# EAGLE library part PIC18F14K50 (library pedrodiogo)
Microchip PIC18F14K50 DATASHEET: http://ww1.microchip.com/downloads/en/DeviceDoc/41350E.pdf
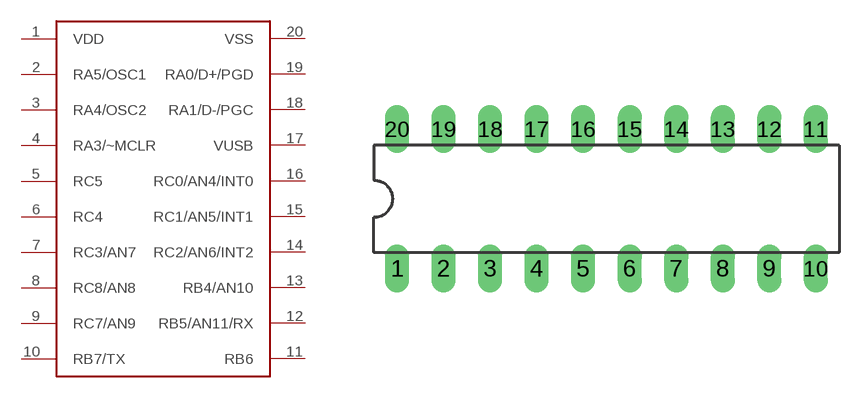
[diagram p0: symbol with the pads of DIL20; footprint DIL20]

Designator prefix -

## PIC18F14K50  [DIL20]
1  VDD
2  RA5/OSC1
3  RA4/OSC2
4  RA3/~MCLR
5  RC5
6  RC4
7  RC3/AN7
8  RC8/AN8
9  RC7/AN9
10  RB7/TX
11  RB6
12  RB5/AN11/RX
13  RB4/AN10
14  RC2/AN6/INT2
15  RC1/AN5/INT1
16  RC0/AN4/INT0
17  VUSB
18  RA1/D-/PGC
19  RA0/D+/PGD
20  VSS

## Footprint DIL20 (pad centres in mm)
Dual In Line Package
drill 0.813 long: 1 -11.43,-3.81; 2 -8.89,-3.81; 3 -6.35,-3.81; 4 -3.81,-3.81; 5 -1.27,-3.81; 6 1.27,-3.81; 7 3.81,-3.81; 8 6.35,-3.81; 9 8.89,-3.81; 10 11.43,-3.81; 11 11.43,3.81; 12 8.89,3.81; 13 6.35,3.81; 14 3.81,3.81; 15 1.27,3.81; 16 -1.27,3.81; 17 -3.81,3.81; 18 -6.35,3.81; 19 -8.89,3.81; 20 -11.43,3.81